# Altium schematic symbol library Schlib1.SchLib: 1 symbol
Pins are listed as number, name and electrical type; pins without a type are passive.

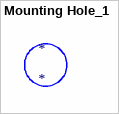
[diagram p0: symbol Mounting Hole_1]

## Mounting Hole_1
designator *
footprint Mounting Hole_1
footprint Mounting Hole_1